# Altium schematic symbol library Library.SchLib: 21 symbols
Pins are listed as number, name and electrical type; pins without a type are passive.

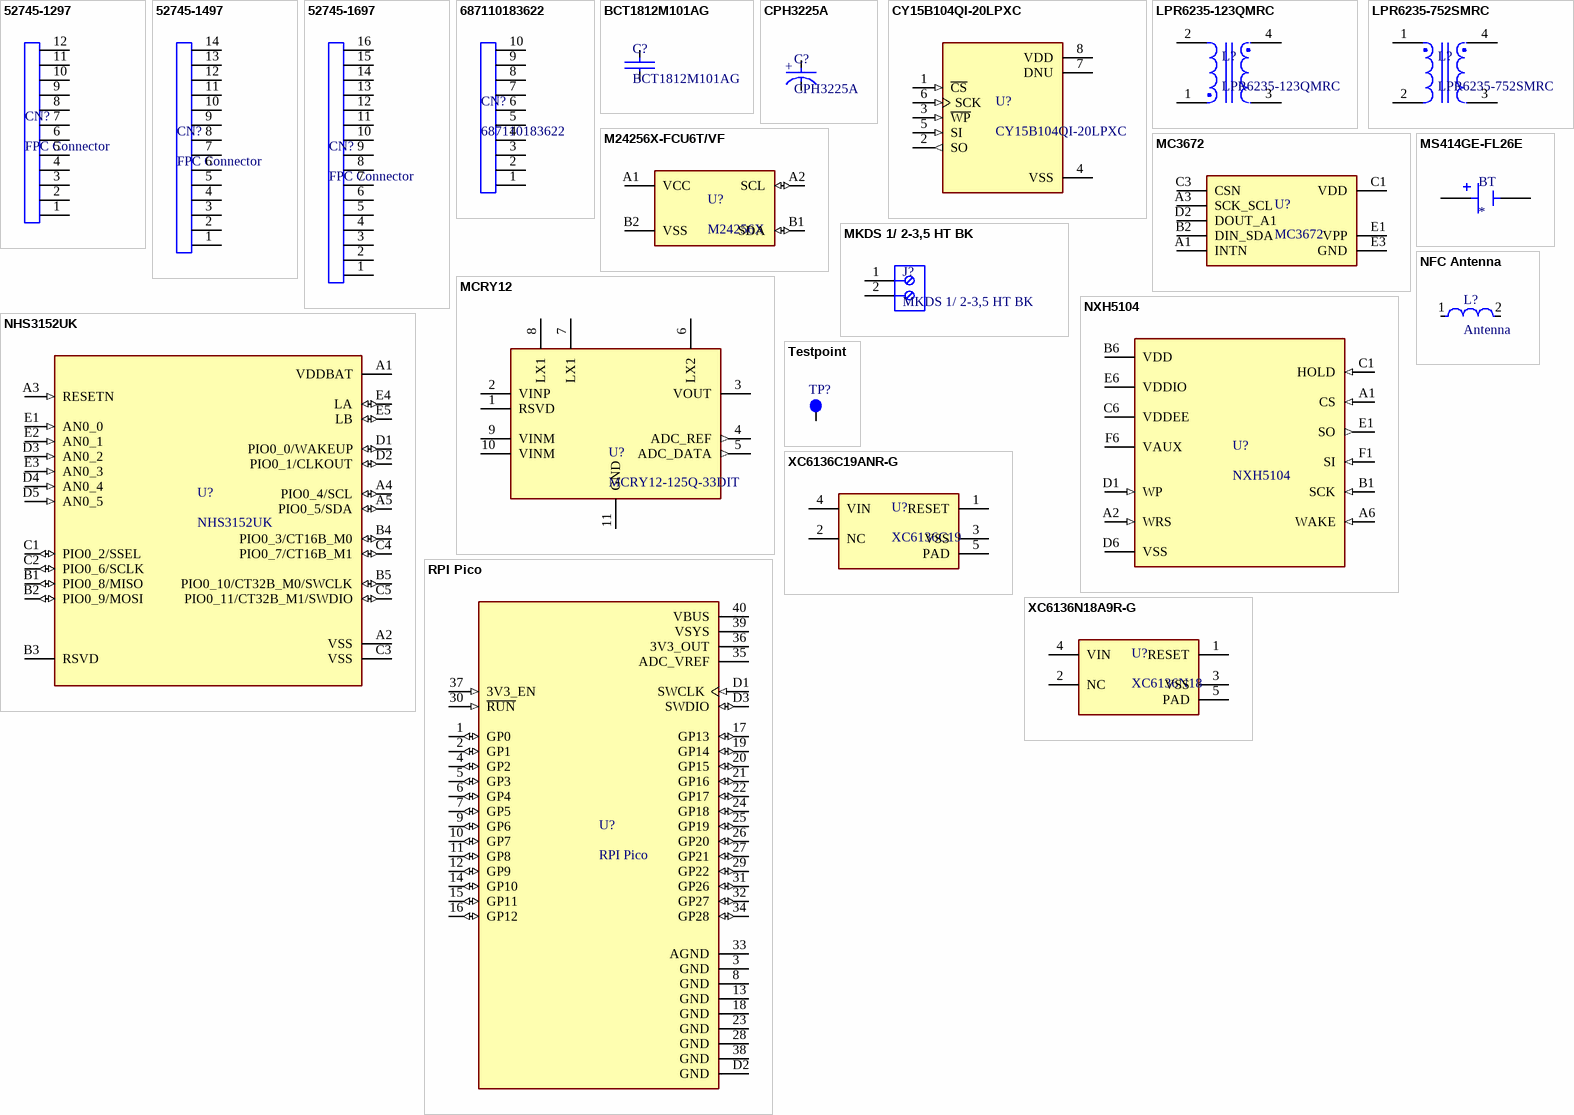
[diagram p0: symbols 52745-1297 to XC6136N18A9R-G]

## 52745-1297
designator CN?, comment FPC Connector
FFC / FPC Board Connector, 0.5 mm, 12 Contacts, Receptacle, Easy-On 52745, Surface Mount, Top
footprint 52745-1297 (Cable Side)
pins: 1, 2, 3, 4, 5, 6, 7, 8, 9, 10, 11, 12

## 52745-1497
designator CN?, comment FPC Connector
FFC / FPC Board Connector, 0.5 mm, 14 Contacts, Receptacle, Easy-On 52745, Surface Mount, Top
footprint 52745-1497 (Cable Side)
pins: 1, 2, 3, 4, 5, 6, 7, 8, 9, 10, 11, 12, 13, 14

## 52745-1697
designator CN?, comment FPC Connector
FFC / FPC Board Connector, 0.5 mm, 16 Contacts, Receptacle, Easy-On 52745, Surface Mount, Top
footprint 52745-1697 (Cable Side)
pins: 1, 2, 3, 4, 5, 6, 7, 8, 9, 10, 11, 12, 13, 14, 15, 16

## 687110183622
designator CN?
FPC connector - board side
footprint 687110183622 (Cable Side)
pins: 1, 2, 3, 4, 5, 6, 7, 8, 9, 10

## BCT1812M101AG
designator C?
Elektronische accu 1812 1.5V 100uAh 20uA BCT1812M101AG
footprint BCT1812M101AG (Ceramic Chip Capacitor)
pins: 1 C, 2 A

## CPH3225A
designator C?
Supercapacitors / Ultracapacitors Reflow EDLC 3.3V, 11mF, 160 Ohm
footprint CPH3225A
pins: 1 C, 2 A
text: +

## CY15B104QI-20LPXC
designator U?
FRAM (Ferroelectric RAM) Memory IC 4Mbit SPI 20 MHz 8-GQFN (3.23x3.28)
footprint 8-GQFN (8-pin GQFN (3.23 × 3.28 × 0.55 mm))
pins: 1 ~{CS} (in), 2 SO (out), 3 ~{WP} (in), 4 VSS (power), 5 SI (in), 6 SCK (in), 7 DNU, 8 VDD (power)

## LPR6235-123QMRC
designator L?
Gekoppelde smoorspoelen 12.5uH 12% 900mA 200 Ohms
footprint LPR6235 (Coupled Inductors)
pins: 1, 2, 3, 4

## LPR6235-752SMRC
designator L?
Gekoppelde smoorspoelen 7.5uH 75% 1.6A 316 Ohms 1:100
footprint LPR6235 (Coupled Inductors)
pins: 1, 2, 3, 4

## M24256X-FCU6T/VF
designator U?, comment M24256X
EEPROM 256-Kbit serial I2C bus EEPROM
footprint WLCSP4 (0.703 x 0.977 mm, 0.4 x 0.5 mm pitch thin wafer level chip scale package.)
pins: A1 VCC (power), A2 SCL (io), B1 SDA (io), B2 VSS (power)

## MC3672
designator U?
Accelerometer
footprint CSP-8
pins: A1 INTN, A3 SCK_SCL, B2 DIN_SDA, C1 VDD, C3 CSN, D2 DOUT_A1, E1 VPP, E3 GND

## MCRY12
designator U?, comment MCRY12-125Q-33DIT
Matrix Mercury Energy Harvesting Synchronous Boost Converter with Microwatt Cold-Start, Input Impedance Matching and Regulated Output
footprint 10DFN (10-lead, 3mm × 3mm DFN)
pins: 1 RSVD (power), 2 VINP (power), 3 VOUT (power), 4 ADC_REF (out), 5 ADC_DATA (out), 6 LX2 (power), 7 LX1 (power), 8 LX1 (power), 9 VINM (power), 10 VINM (power), 11 GND (power)

## MKDS 1/ 2-3,5 HT BK
designator J?
footprint MKDS 1/ 2-3,5 HT BK (MKDS 1/ 2-3,5 HT BK Screw Terminal)
pins: 1, 2

## MS414GE-FL26E
designator BT
Coin, 4.8mm 3V Lithium Battery Rechargeable (Secondary) 2mAh; MP: MS414GE-FL26E; MF: Seiko; Price: None; Package: Custom Package Seiko; Value: *; Availability: Unavailable; Mouser-Purchase-URL: https://snapeda.com/shop?store=Mouser&id=554618; SnapEDA_Link: https://www.snapeda.com/parts/MS414GE-FL26E/Seiko/view-part/554618/?ref=snap
footprint MS414GE-FL26E (Rechargeable Battery, 3 V, Lithium, 2 mAh, Button Cell, PCB Pins, 4.8 mm)
pins: NEG, POS

## NFC Antenna
designator L?, comment Antenna  (net tie, no BOM)
Track 0.2; Gap 0.1; Height 4.6; Width 14.5;
footprint NFC Antenna (4.5 x 15 mm)
pins: 1, 2

## NHS3152UK
designator U?
ARM-microcontrollers - MCU NTAG NHS3152 NFC
footprint WLCSP25
pins: A1 VDDBAT (power), A2 VSS (power), A3 RESETN (in), A4 PIO0_4/SCL (io), A5 PIO0_5/SDA (io), B1 PIO0_8/MISO (io), B2 PIO0_9/MOSI (io), B3 RSVD, B4 PIO0_3/CT16B_M0 (io), B5 PIO0_10/CT32B_M0/SWCLK (io), C1 PIO0_2/SSEL (io), C2 PIO0_6/SCLK (io), C3 VSS (power), C4 PIO0_7/CT16B_M1 (io), C5 PIO0_11/CT32B_M1/SWDIO (io), D1 PIO0_0/WAKEUP (io), D2 PIO0_1/CLKOUT (io), D3 AN0_2 (in), D4 AN0_4 (in), D5 AN0_5 (in), E1 AN0_0 (in), E2 AN0_1 (in), E3 AN0_3 (in), E4 LA (io), E5 LB (io)

## NXH5104
designator U?
4 Mbit Serial SPI EEPROM
footprint WLCSP13
pins: A1 CS (in), A2 WRS (in), A6 WAKE (in), B1 SCK (in), B6 VDD (power), C1 HOLD (in), C6 VDDEE (power), D1 WP (in), D6 VSS (power), E1 SO (out), E6 VDDIO (power), F1 SI (in), F6 VAUX (power)

## RPI Pico
designator U?
Raspberry Pi Pico Development board
footprint RPI Pico
pins: 1 GP0 (io), 2 GP1 (io), 3 GND (power), 4 GP2 (io), 5 GP3 (io), 6 GP4 (io), 7 GP5 (io), 8 GND (power), 9 GP6 (io), 10 GP7 (io), 11 GP8 (io), 12 GP9 (io), 13 GND (power), 14 GP10 (io), 15 GP11 (io), 16 GP12 (io), 17 GP13 (io), 18 GND (power), 19 GP14 (io), 20 GP15 (io), 21 GP16 (io), 22 GP17 (io), 23 GND (power), 24 GP18 (io), 25 GP19 (io), 26 GP20 (io), 27 GP21 (io), 28 GND (power), 29 GP22 (io), 30 ~{RUN} (in), 31 GP26 (io), 32 GP27 (io), 33 AGND (power), 34 GP28 (io), 35 ADC_VREF (power), 36 3V3_OUT (power), 37 3V3_EN (in), 38 GND (power), 39 VSYS (power), 40 VBUS (power), D1 SWCLK (in), D2 GND (power), D3 SWDIO (io)

## Testpoint
designator TP?  (value not drawn)
footprint Testpoint 0.5mm
footprint Testpoint 1.0mm
footprint Testpoint 1.5mm
footprint Testpoint 0.35mm
pins: 1 2

## XC6136C19ANR-G
designator U?, comment XC6136C19
Controlecircuits Ultra-Low Power (88nA) Voltage Detector
footprint USPQ-4B05 (USPQ-4B05 Torex)
pins: 1 RESET (power), 2 NC (power), 3 VSS (power), 4 VIN (power), 5 PAD (power)

## XC6136N18A9R-G
designator U?, comment XC6136N18
Controlecircuits Ultra-Low Power (88nA) Voltage Detector
footprint USPQ-4B05 (USPQ-4B05 Torex)
pins: 1 RESET (power), 2 NC (power), 3 VSS (power), 4 VIN (power), 5 PAD (power)